# Altium footprint library PcbLib1.PcbLib: 13 footprints
Each footprint in its own frame and in the unit in brackets; x right, y up, seen from the top. Pads: shape width x height; smd on the part's side, far side on the other; paste and mask are expansions set on the pad; w line width, h text height; cw(c..) or ccw(c..) is an arc to the next point about the centre after c.
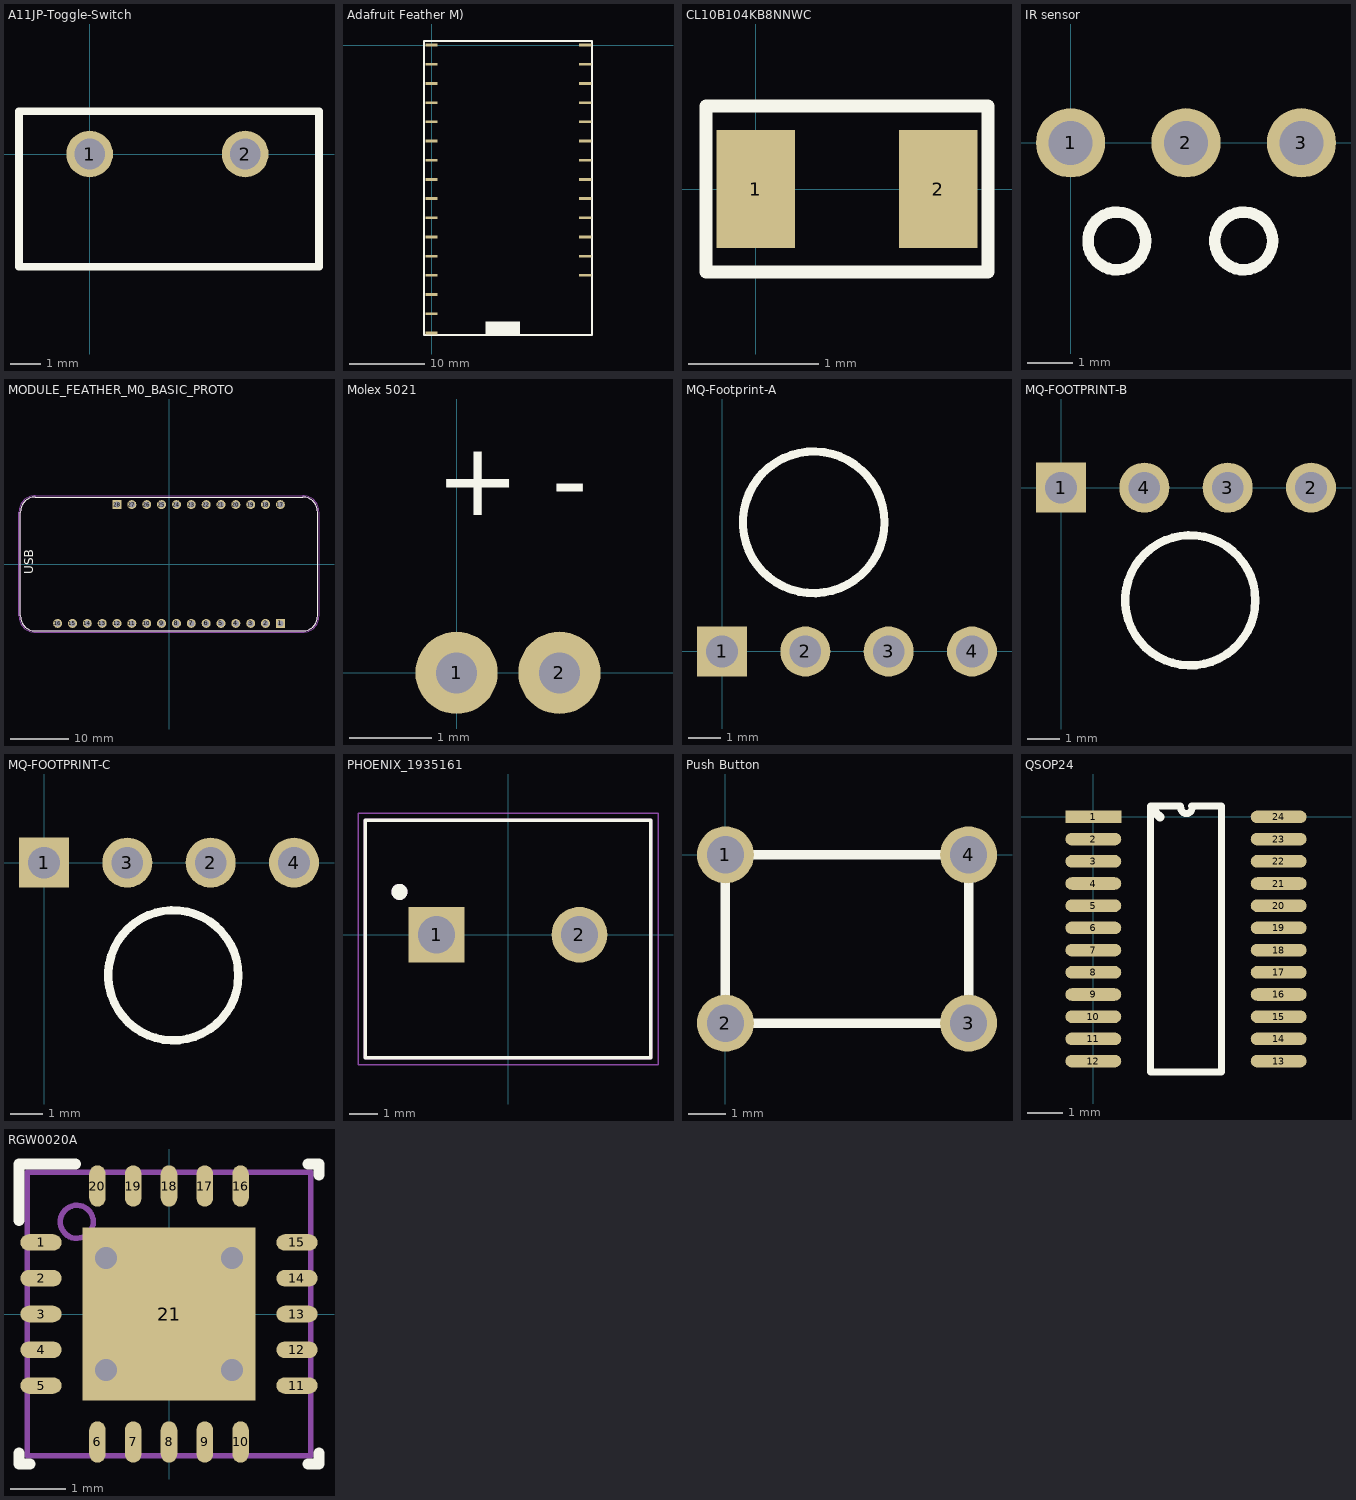
[diagram p0: the footprints below, top view; thin cyan lines are the x and y axes]

## A11JP-Toggle-Switch [mil]
pads (2):
  round 60 hole 39.37 paste-99999 mask+2: 1(0,0) 2(200,0)
Top Overlay:
  lines w10: -90.83,-145 295,-145 295,55 -90.83,55 -90.83,-145

## Adafruit Feather M) [mm]
pads (29):
  rect 1.6x0.36 smd: 1(0,0) 2(0,-2.54) 3(0,-5.08) 4(0,-7.62) 5(0,-10.16) 6(0,-12.7) 7(0,-15.24) 8(0,-17.78) 9(0,-20.32) 10(0,-22.86) 11(0,-25.4) 12(0,-27.94) 13(0,-30.48) 14(0,-33.02) 15(0,-35.56) 16(0,-38.1) 17(20.32,0) 18(20.32,-2.54) 19(20.32,-5.08) 20(20.32,-7.62) 21(20.32,-10.16) 22(20.32,-12.7) 23(20.32,-15.24) 24(20.32,-17.78) 25(20.32,-20.32) 26(20.32,-22.86) 27(20.32,-25.4) 28(20.32,-27.94) 29(20.32,-30.48)
Top Overlay:
  rectangle: 7.112,-38.354 11.684,-36.576
  lines w0.254: -1.016,-38.354 21.209,-38.354 21.209,0.508 -1.016,0.508 -1.016,-38.354

## CL10B104KB8NNWC [mm]
pads (2):
  rect 0.6x0.9 smd paste-2539.97 mask+0.051: 1(0,0) 2(1.397,0)
Top Overlay:
  lines w0.1: -0.381,-0.635 1.778,-0.635 1.778,0.635 -0.381,0.635 -0.381,-0.635
3D body "CAP_CL10_SAM.step": height 0.9, standoff 0, extent -0.165,-0.4 1.435,0.4

## IR sensor [mil]
pads (3):
  round 60 hole 38 paste-99999 mask+2: 1(0,0) 2(100,0) 3(200,0)
Top Overlay:
  circle w10: c150,-85 r25
  circle w10: c40,-85 r25
  text ".Designator" at -150,-180.01 h60
3D body "infrared sensor.SLDPRT": height 1496.56, standoff -275.09, extent -180.51,-31.42 380.51,105

## MODULE_FEATHER_M0_BASIC_PROTO [mm]
pads (28):
  rect 1.53x1.53 / inner round 1.53 / far side rect 1.53x1.53 hole 1.02: 1(19.05,-10.16) 28(-8.89,10.16)
  round 1.53 hole 1.02: 2(16.51,-10.16) 3(13.97,-10.16) 4(11.43,-10.16) 5(8.89,-10.16) 6(6.35,-10.16) 7(3.81,-10.16) 8(1.27,-10.16) 9(-1.27,-10.16) 10(-3.81,-10.16) 11(-6.35,-10.16) 12(-8.89,-10.16) 13(-11.43,-10.16) 14(-13.97,-10.16) 15(-16.51,-10.16) 16(-19.05,-10.16) 17(19.05,10.16) 18(16.51,10.16) 19(13.97,10.16) 20(11.43,10.16) 21(8.89,10.16) 22(6.35,10.16) 23(3.81,10.16) 24(1.27,10.16) 25(-1.27,10.16) 26(-3.81,10.16) 27(-6.35,10.16)
Top Overlay:
  lines w0.127: -25.4,-8.89 ccw(c-22.86,-8.89) -22.86,-11.43 22.86,-11.43 ccw(c22.86,-8.89) 25.4,-8.89 25.4,8.89 ccw(c22.86,8.89) 22.86,11.43 -22.86,11.43 ccw(c-22.86,8.89) -25.4,8.89 -25.4,-8.89
  text ".Designator" at -4.572,0 h1.52
  text "USB" at -23.241,-1.778 h1.52
Mechanical 13:
  lines w0.127: -25.4,-8.89 ccw(c-22.86,-8.89) -22.86,-11.43 22.86,-11.43 ccw(c22.86,-8.89) 25.4,-8.89 25.4,8.89 ccw(c22.86,8.89) 22.86,11.43 -22.86,11.43 ccw(c-22.86,8.89) -25.4,8.89 -25.4,-8.89
Mechanical 15:
  lines w0.05: -25.65,-8.89 ccw(c-22.86,-8.89) -22.86,-11.68 22.86,-11.68 ccw(c22.86,-8.89) 25.65,-8.89 25.65,8.89 ccw(c22.86,8.89) 22.86,11.68 -22.86,11.68 ccw(c-22.86,8.89) -25.65,8.89 -25.65,-8.89

## Molex 5021 [mm]
pads (2):
  round 1 / inner round 1.524 / far side round 1 hole 0.5 paste-2539.97 mask+0.051: 1(0,0) 2(1.25,0)
Top Overlay:
  text "+ -" at -0.254,1.621 h1.52

## MQ-Footprint-A [mil]
pads (4):
  rect 60x60 / inner round 60 / far side round 60 hole 38 paste-99999 mask+2: 1(0,0)
  round 60 hole 38 paste-99999 mask+2: 2(100,0) 3(200,0) 4(300,0)
Top Overlay:
  circle w10: c110,155 r85
3D body "MQ-black.SLDPRT": height 1575.3, standoff 0.5, extent -613.98,-10 763.98,1060.87

## MQ-FOOTPRINT-B [mil]
pads (4):
  rect 60x60 / inner round 60 / far side round 60 hole 38 paste-99999 mask+2: 1(-0.18,0.24)
  round 60 hole 38 paste-99999 mask+2: 2(299.82,0.24) 3(199.82,0.24) 4(99.82,0.24)
Top Overlay:
  circle w10: c155,-135 r78.1
3D body "MQ-blue.SLDPRT": height 1260.34, standoff 0.5, extent -272.4,-668.58 515,8.58

## MQ-FOOTPRINT-C [mil]
pads (4):
  rect 60x60 / inner round 60 / far side round 60 hole 38 paste-99999 mask+2: 1(-0.18,0.24)
  round 60 hole 38 paste-99999 mask+2: 2(199.82,0.24) 3(99.82,0.24) 4(299.82,0.24)
Top Overlay:
  circle w10: c155,-135 r78.1
3D body "MQ-blue.SLDPRT": height 1260.34, standoff 0.5, extent -272.4,-668.58 515,8.58

## PHOENIX_1935161 [mm]
pads (2):
  rect 1.95x1.95 / inner round 1.95 / far side rect 1.95x1.95 hole 1.3: 1(-2.5,0)
  round 1.95 hole 1.3: 2(2.5,0)
Top Overlay:
  circle w0.28: c-3.8,1.5 r0.14
  lines w0.127: -5,-4.3 5,-4.3 5,4 -5,4 -5,-4.3
Mechanical 13:
  circle w0.28: c-3.8,1.5 r0.14
  lines w0.127: -5,-4.3 -5,4 5,4 5,-4.3 -5,-4.3
  text "NAME" at -5.087,5.087 h1.27
  text "VALUE" at -5.093,-6.366 h1.27
Mechanical 15:
  lines w0.05: -5.25,-4.55 5.25,-4.55 5.25,4.25 -5.25,4.25 -5.25,-4.55
3D body "step_temp.STEP": height 11.41, standoff -3.49, extent -4.939,-5.334 5.461,3.666

## Push Button [mm]
pads (4):
  round 1.524 hole 1 paste-2539.97 mask+0.051: 1(0,0) 2(0,-4.5) 3(6.5,-4.5) 4(6.5,0)
Top Overlay:
  lines w0.254: 0,-4.5 6.5,-4.5 ; 0,-4.5 6.5,-4.5 ; 0,-4.5 0,0 ; 0,-4.5 0,0 ; 0,0 6.5,0 ; 0,0 6.5,0 ; 6.5,-4.5 6.5,0 ; 6.5,-4.5 6.5,0

## QSOP24 [mm]
pads (24):
  rect 1.6x0.36 smd mask+0.05: 1(0,0)
  oval 1.6x0.36 smd mask+0.05: 2(0,-0.636) 3(0,-1.272) 4(0,-1.908) 5(0,-2.544) 6(0,-3.18) 7(0,-3.816) 8(0,-4.452) 9(0,-5.088) 10(0,-5.724) 11(0,-6.36) 12(0,-6.996) 13(5.31,-6.996) 14(5.31,-6.36) 15(5.31,-5.724) 16(5.31,-5.088) 17(5.31,-4.452) 18(5.31,-3.816) 19(5.31,-3.18) 20(5.31,-2.544) 21(5.31,-1.908) 22(5.31,-1.272) 23(5.31,-0.636) 24(5.31,0)
Top Overlay:
  lines w0.2: 2.496,0.318 1.635,0.318 1.635,-7.314 3.675,-7.314 3.675,0.318 2.814,0.318 ; 2.508,0.254 ccw(c2.667,0.254) 2.826,0.254
  lines w0.254: 1.778,0.127 1.905,0

## RGW0020A [mm]
pads (21):
  oval 0.75x0.3 smd paste-0.102 mask+0.051: 1(-2.325,1.3) 2(-2.325,0.65) 3(-2.325,0) 4(-2.325,-0.65) 5(-2.325,-1.3) 11(2.325,-1.3) 12(2.325,-0.65) 13(2.325,0) 14(2.325,0.65) 15(2.325,1.3)
  oval 0.3x0.75 smd paste-0.102 mask+0.051: 6(-1.3,-2.325) 7(-0.65,-2.325) 8(0,-2.325) 9(0.65,-2.325) 10(1.3,-2.325) 16(1.3,2.325) 17(0.65,2.325) 18(0,2.325) 19(-0.65,2.325) 20(-1.3,2.325)
  rect 3.15x3.15 smd paste-1.575 mask+0.051: 21(0,0)
via 1.143,1.016 diameter 0.6 hole 0.4
via -1.143,1.016 diameter 0.6 hole 0.4
via -1.143,-1.016 diameter 0.6 hole 0.4
via 1.143,-1.016 diameter 0.6 hole 0.4
Top Overlay:
  lines w0.2: -2.725,-2.525 -2.725,-2.725 -2.525,-2.725 ; -2.725,1.7 -2.725,2.725 -1.7,2.725 ; 2.525,-2.725 2.725,-2.725 2.725,-2.525 ; 2.525,2.725 2.725,2.725 2.725,2.525
Top Paste:
  region: 0.1,1.468 0.1,0.1 1.468,0.1 1.468,1.468
  region: -0.1,0.1 -0.1,1.468 -1.468,1.468 -1.468,0.1
  region: -0.1,-1.468 -0.1,-0.1 -1.468,-0.1 -1.468,-1.468
  region: 0.1,-0.1 0.1,-1.468 1.468,-1.468 1.468,-0.1
Mechanical 13:
  circle w0.1: c-1.675,1.675 r0.3
  lines w0.1: -2.575,-2.575 -2.575,2.575 2.575,2.575 2.575,-2.575 -2.575,-2.575